# Altium footprint library SOD123.PcbLib: 1 footprints
Each footprint in its own frame and in the unit in brackets; x right, y up, seen from the top. Pads: shape width x height; smd on the part's side, far side on the other; paste and mask are expansions set on the pad; w line width, h text height; cw(c..) or ccw(c..) is an arc to the next point about the centre after c.
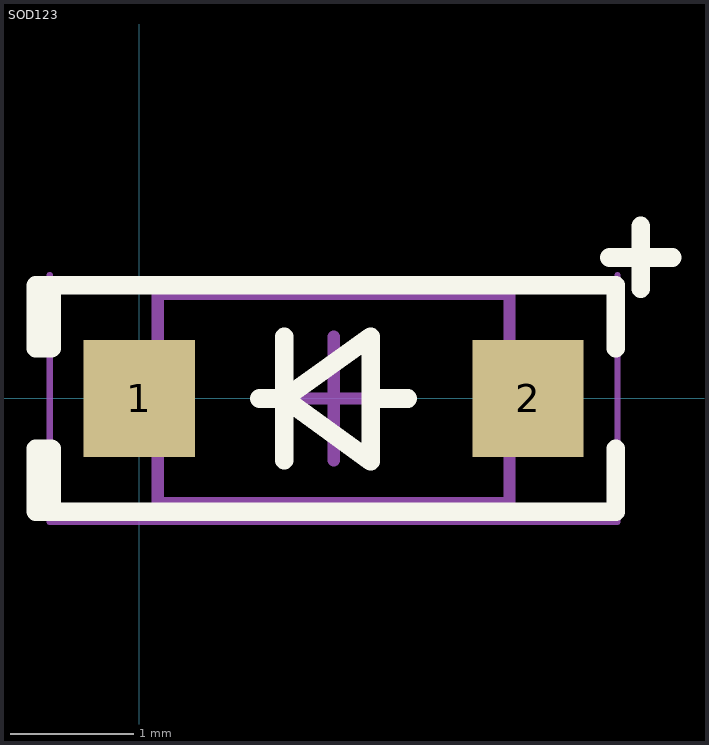
[diagram p0: the footprint, top view; thin cyan lines are the x and y axes]

## SOD123 [mm]
height 1
pads (2):
  rect 0.9x0.95 smd: 1(0,0) 2(3.15,0)
Top Overlay:
  lines w0.15: -0.725,-0.916 3.861,-0.916 ; -0.725,0.916 3.861,0.916
  lines w0.152: 0.975,0 1.175,0 ; 1.175,-0.5 1.175,0.5 ; 1.875,0 2.175,0 ; 3.81,1.143 4.318,1.143 ; 3.861,-0.914 3.861,-0.406 ; 3.861,0.406 3.861,0.914 ; 4.064,0.889 4.064,1.397 ; 1.175,0 1.875,0.5 1.875,-0.508 1.175,0 ; -0.838,-0.914 -0.711,-0.914 -0.711,-0.406 -0.838,-0.406 -0.838,-0.914 ; -0.838,0.406 -0.838,0.914 -0.711,0.914 -0.711,0.406 -0.838,0.406
Mechanical 13:
  lines w0.1: 0.15,-0.85 0.15,0.85 3,0.85 3,-0.85 0.15,-0.85
Mechanical 15:
  lines w0.05: -0.725,0.9 3.875,0.9 ; -0.725,1 -0.725,-1 3.875,-1 3.875,1
  lines w0.1: 1.075,0 2.075,0 ; 1.575,-0.5 1.575,0.5
3D body "SOD-123.STEP": height 1.35, standoff 0, extent -0.289,-0.775 3.439,0.775